# Altium integrated library QSH-060-01-X-D-A.IntLib: 1 symbol
Pins are listed as number, name and electrical type; pins without a type are passive.

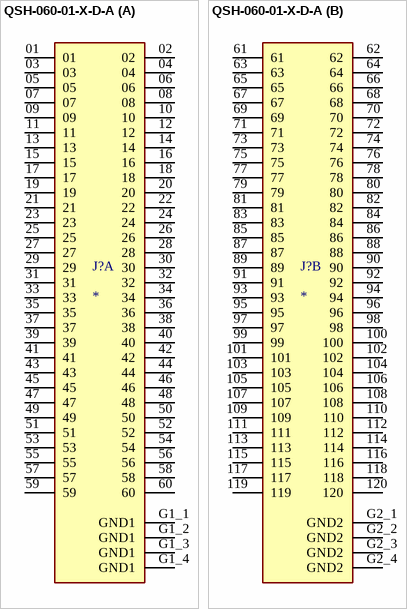
[diagram p0: symbol QSH-060-01-X-D-A]

## QSH-060-01-X-D-A
designator J?
120 Position Connector Receptacle, Center Strip Contacts Surface Mount Gold; MP: QSH-060-01-X-D-A; MF: Samtec; Package: None; Value: *; Availability: Unavailable; Price: None
footprint SAMTEC_QSH-060-01-X-D-A
part A pins: 01, 02, 03, 04, 05, 06, 07, 08, 09, 10, 11, 12, 13, 14, 15, 16, 17, 18, 19, 20, 21, 22, 23, 24, 25, 26, 27, 28, 29, 30, 31, 32, 33, 34, 35, 36, 37, 38, 39, 40, 41, 42, 43, 44, 45, 46, 47, 48, 49, 50, 51, 52, 53, 54, 55, 56, 57, 58, 59, 60, G1_1 GND1 (power), G1_2 GND1 (power), G1_3 GND1 (power), G1_4 GND1 (power)
part B pins: 61, 62, 63, 64, 65, 66, 67, 68, 69, 70, 71, 72, 73, 74, 75, 76, 77, 78, 79, 80, 81, 82, 83, 84, 85, 86, 87, 88, 89, 90, 91, 92, 93, 94, 95, 96, 97, 98, 99, 100, 101, 102, 103, 104, 105, 106, 107, 108, 109, 110, 111, 112, 113, 114, 115, 116, 117, 118, 119, 120, G2_1 GND2 (power), G2_2 GND2 (power), G2_3 GND2 (power), G2_4 GND2 (power)